# EAGLE library part IS31FL3746A (library ts_kb_mcu)
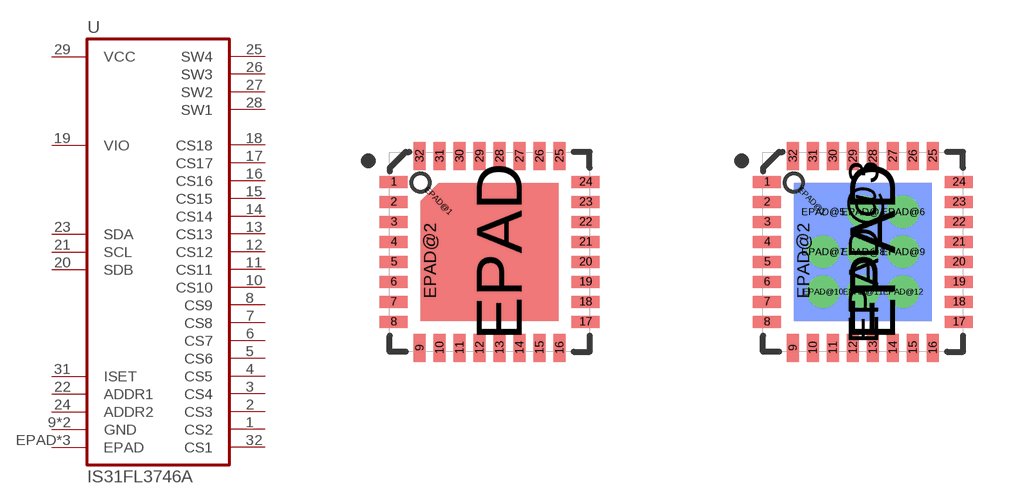
[diagram p2: symbol with the pads of QFN32; footprints QFN32, QFN32_THERM]

Designator prefix -

## IS31FL3746A  [QFN32]
1  CS2
2  CS3
3  CS4
4  CS5
5  CS6
6  CS7
7  CS8
8  CS9
9  GND
10  CS10
11  CS11
12  CS12
13  CS13
14  CS14
15  CS15
16  CS16
17  CS17
18  CS18
19  VIO
20  SDB
21  SCL
22  ADDR1
23  SDA
24  ADDR2
25  SW4
26  SW3
27  SW2
28  SW1
29  VCC
30  GND
31  ISET
32  CS1
EPAD  EPAD
EPAD@1  EPAD
EPAD@2  EPAD

## IS31FL3746ATHERM  [QFN32_THERM]
1  CS2
2  CS3
3  CS4
4  CS5
5  CS6
6  CS7
7  CS8
8  CS9
9  GND
10  CS10
11  CS11
12  CS12
13  CS13
14  CS14
15  CS15
16  CS16
17  CS17
18  CS18
19  VIO
20  SDB
21  SCL
22  ADDR1
23  SDA
24  ADDR2
25  SW4
26  SW3
27  SW2
28  SW1
29  VCC
30  GND
31  ISET
32  CS1
EPAD  EPAD
EPAD@1  EPAD
EPAD@2  EPAD
EPAD@3  EPAD
EPAD@4  EPAD
EPAD@5  EPAD
EPAD@6  EPAD
EPAD@7  EPAD
EPAD@8  EPAD
EPAD@9  EPAD
EPAD@10  EPAD
EPAD@11  EPAD
EPAD@12  EPAD

## Footprint QFN32 (pad centres in mm)
UH Package 32-Lead Plastic QFN (5mm ×5mm) (Reference LTC DWG # 05-08-1693 Rev D) Pad size: 0.7x0.3 Pitch: 0.5 Case: 5x5 Thermal pad: 3.45x3.45
smd 0.7 x 0.3: 1 -2.4,1.75; 2 -2.4,1.25; 3 -2.4,0.75; 4 -2.4,0.25; 5 -2.4,-0.25; 6 -2.4,-0.75; 7 -2.4,-1.25; 8 -2.4,-1.75; 17 2.4,-1.75; 18 2.4,-1.25; 19 2.4,-0.75; 20 2.4,-0.25; 21 2.4,0.25; 22 2.4,0.75; 23 2.4,1.25; 24 2.4,1.75
smd 0.3 x 0.7: 9 -1.75,-2.4; 10 -1.25,-2.4; 11 -0.75,-2.4; 12 -0.25,-2.4; 13 0.25,-2.4; 14 0.75,-2.4; 15 1.25,-2.4; 16 1.75,-2.4; 25 1.75,2.4; 26 1.25,2.4; 27 0.75,2.4; 28 0.25,2.4; 29 -0.25,2.4; 30 -0.75,2.4; 31 -1.25,2.4; 32 -1.75,2.4
smd 3 x 3.45: EPAD 0.225,0
smd 0.636 x 0.636 rotated 315: EPAD@1 -1.276,1.275
smd 0.45 x 3: EPAD@2 -1.5,-0.225

## Footprint QFN32_THERM (pad centres in mm)
UH Package 32-Lead Plastic QFN (5mm ×5mm) (Reference LTC DWG # 05-08-1693 Rev D) Pad size: 0.7x0.3 Pitch: 0.5 Case: 5x5 Thermal pad: 3.45x3.45
smd 0.7 x 0.3: 1 -2.4,1.75; 2 -2.4,1.25; 3 -2.4,0.75; 4 -2.4,0.25; 5 -2.4,-0.25; 6 -2.4,-0.75; 7 -2.4,-1.25; 8 -2.4,-1.75; 17 2.4,-1.75; 18 2.4,-1.25; 19 2.4,-0.75; 20 2.4,-0.25; 21 2.4,0.25; 22 2.4,0.75; 23 2.4,1.25; 24 2.4,1.75
smd 0.3 x 0.7: 9 -1.75,-2.4; 10 -1.25,-2.4; 11 -0.75,-2.4; 12 -0.25,-2.4; 13 0.25,-2.4; 14 0.75,-2.4; 15 1.25,-2.4; 16 1.75,-2.4; 25 1.75,2.4; 26 1.25,2.4; 27 0.75,2.4; 28 0.25,2.4; 29 -0.25,2.4; 30 -0.75,2.4; 31 -1.25,2.4; 32 -1.75,2.4
smd 3 x 3.45: EPAD 0.225,0
smd 0.636 x 0.636 rotated 315: EPAD@1 -1.276,1.275
smd 0.45 x 3: EPAD@2 -1.5,-0.225
smd 3.45 x 3.45 bottom: EPAD@3 0,0
drill 0.3: EPAD@4 0,1; EPAD@5 -1,1; EPAD@6 1,1; EPAD@7 -1,0; EPAD@8 0,0; EPAD@9 1,0; EPAD@10 -1,-1; EPAD@11 0,-1; EPAD@12 1,-1